# Altium footprint library Vishay.PcbLib: 5 footprints
Each footprint in its own frame and in the unit in brackets; x right, y up, seen from the top. Pads: shape width x height; smd on the part's side, far side on the other; paste and mask are expansions set on the pad; w line width, h text height; cw(c..) or ccw(c..) is an arc to the next point about the centre after c.
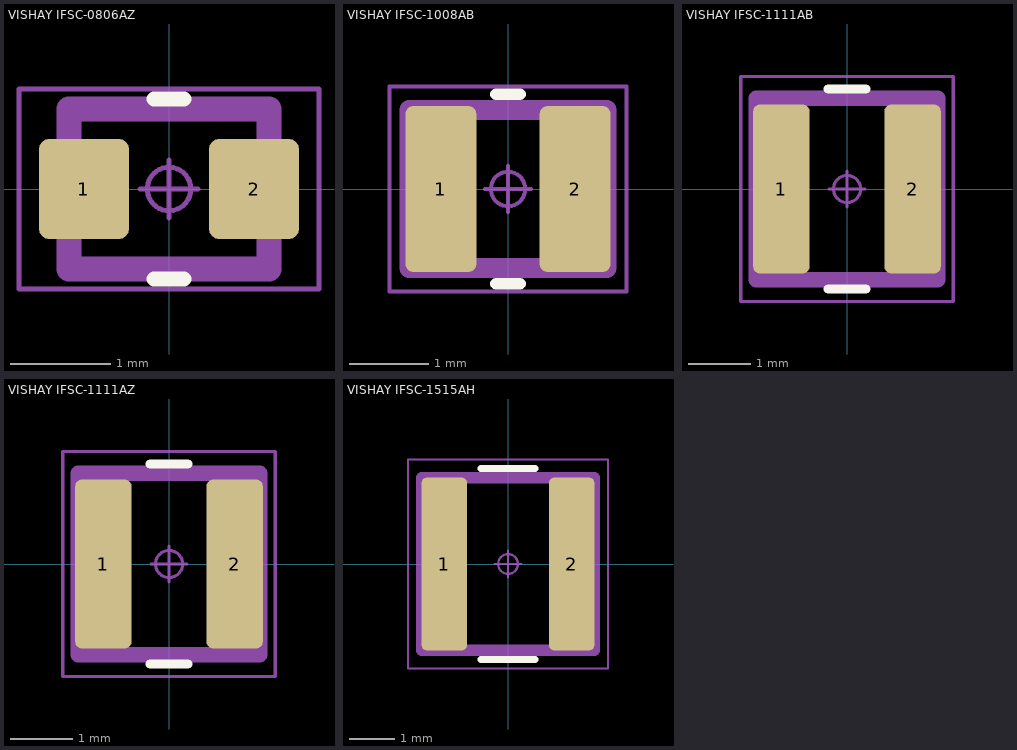
[diagram p0: the footprints below, top view; thin cyan lines are the x and y axes]

## VISHAY IFSC-0806AZ [mm] "VISHAY Low Profile Inductor, 1.6x2.0"
height 1
pads (2):
  rrect22% 0.9x1 smd: 1(-0.85,0) 2(0.85,0)
Top Overlay:
  lines w0.15: -0.15,-0.9 0.15,-0.9 ; -0.15,0.9 0.15,0.9
Top Assembly:
  lines w0.25: -1,-0.8 1,-0.8 1,0.8 -1,0.8 -1,-0.8
  text ".Designator" at -3.378,1.261 h1.5
Top Courtyard:
  circle w0.05: c0,0 r0.218
  lines w0.05: -0.29,0 0.29,0 ; 0,-0.29 0,0.29 ; -1.5,-1 1.5,-1 1.5,1 -1.5,1 -1.5,-1
3D body "IFSC-0806AZ-01.STEP": height 0.91, standoff -0.04, extent -1.01,-0.81 1.01,0.81

## VISHAY IFSC-1008AB [mm] "VISHAY Low Profile Inductor, 2x2.5"
height 1.2
pads (2):
  rrect22% 0.9x2.1 smd: 1(-0.85,0) 2(0.85,0)
Top Overlay:
  lines w0.15: -0.15,-1.2 0.15,-1.2 ; -0.15,1.2 0.15,1.2
Top Assembly:
  lines w0.25: -1.25,-1 1.25,-1 1.25,1 -1.25,1 -1.25,-1
  text ".Designator" at -3.378,-0.339 h1.5
Top Courtyard:
  circle w0.05: c0,0 r0.218
  lines w0.05: -0.29,0 0.29,0 ; 0,-0.29 0,0.29 ; -1.5,-1.3 1.5,-1.3 1.5,1.3 -1.5,1.3 -1.5,-1.3
3D body "IFSC-1008AB-01.STEP": height 1.22, standoff 0.01, extent -1.32,-1.11 1.32,1.09

## VISHAY IFSC-1111AB [mm] "VISHAY Low Profile Inductor, 2.9x2.9"
height 1.2
pads (2):
  rrect22% 0.9x2.7 smd: 1(-1.05,0) 2(1.05,0)
Top Overlay:
  lines w0.15: -0.3,-1.6 0.3,-1.6 ; -0.3,1.6 0.3,1.6
Top Assembly:
  lines w0.25: -1.45,-1.45 1.45,-1.45 1.45,1.45 -1.45,1.45 -1.45,-1.45
  text ".Designator" at -3.378,-0.339 h1.5
Top Courtyard:
  circle w0.05: c0,0 r0.218
  lines w0.05: -0.29,0 0.29,0 ; 0,-0.29 0,0.29 ; -1.7,-1.8 1.7,-1.8 1.7,1.8 -1.7,1.8 -1.7,-1.8
3D body "IFSC-1111AB-01.STEP": height 1.14, standoff 0.01, extent -1.47,-1.47 1.47,1.47

## VISHAY IFSC-1111AZ [mm] "VISHAY Low Profile Inductor, 2.9x2.9"
height 1
pads (2):
  rrect22% 0.9x2.7 smd: 1(-1.05,0) 2(1.05,0)
Top Overlay:
  lines w0.15: -0.3,-1.6 0.3,-1.6 ; -0.3,1.6 0.3,1.6
Top Assembly:
  lines w0.25: -1.45,-1.45 1.45,-1.45 1.45,1.45 -1.45,1.45 -1.45,-1.45
  text ".Designator" at -3.378,-0.339 h1.5
Top Courtyard:
  circle w0.05: c0,0 r0.218
  lines w0.05: -0.29,0 0.29,0 ; 0,-0.29 0,0.29 ; -1.7,-1.8 1.7,-1.8 1.7,1.8 -1.7,1.8 -1.7,-1.8
3D body "IFSC-1111AZ-01.STEP": height 0.95, standoff 0.01, extent -1.47,-1.47 1.47,1.47

## VISHAY IFSC-1515AH [mm] "VISHAY Low Profile Inductor, 3.8x3.8"
height 1.8
pads (2):
  rrect22% 1x3.8 smd: 1(-1.4,0) 2(1.4,0)
Top Overlay:
  lines w0.15: -0.6,-2.1 0.6,-2.1 ; -0.6,2.1 0.6,2.1
Top Assembly:
  lines w0.25: -1.9,-1.9 1.9,-1.9 1.9,1.9 -1.9,1.9 -1.9,-1.9
  text ".Designator" at -3.378,-0.339 h1.5
Top Courtyard:
  circle w0.05: c0,0 r0.218
  lines w0.05: -0.29,0 0.29,0 ; 0,-0.29 0,0.29 ; -2.2,-2.3 2.2,-2.3 2.2,2.3 -2.2,2.3 -2.2,-2.3
3D body "IFSC-1515AH-01.STEP": height 1.69, standoff -0.02, extent -1.975,-1.975 1.975,1.975